# EAGLE library part W25Q128JVEIQ (library Kunosheru)
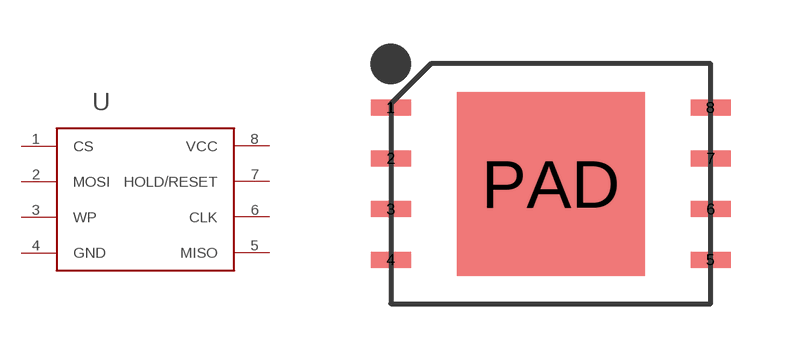
[diagram p12: symbol with the pads of WSON-8; footprint WSON-8]

Designator prefix -

## W25Q128JVEIQ  [WSON-8]
1  CS
2  MOSI
3  WP
4  GND
5  MISO
6  CLK
7  HOLD/RESET
8  VCC

## Footprint WSON-8 (pad centres in mm)
smd 1 x 0.4: 1 -4,1.905; 2 -4,0.635; 3 -4,-0.635; 4 -4,-1.905; 5 4,-1.905; 6 4,-0.635; 7 4,0.635; 8 4,1.905
smd 4.7 x 4.6: PAD 0,0